# Altium footprint library PcbLib1.PcbLib: 33 footprints (part 1 of 3)
Each footprint in its own frame and in the unit in brackets; x right, y up, seen from the top. Pads: shape width x height; smd on the part's side, far side on the other; paste and mask are expansions set on the pad; w line width, h text height; cw(c..) or ccw(c..) is an arc to the next point about the centre after c.
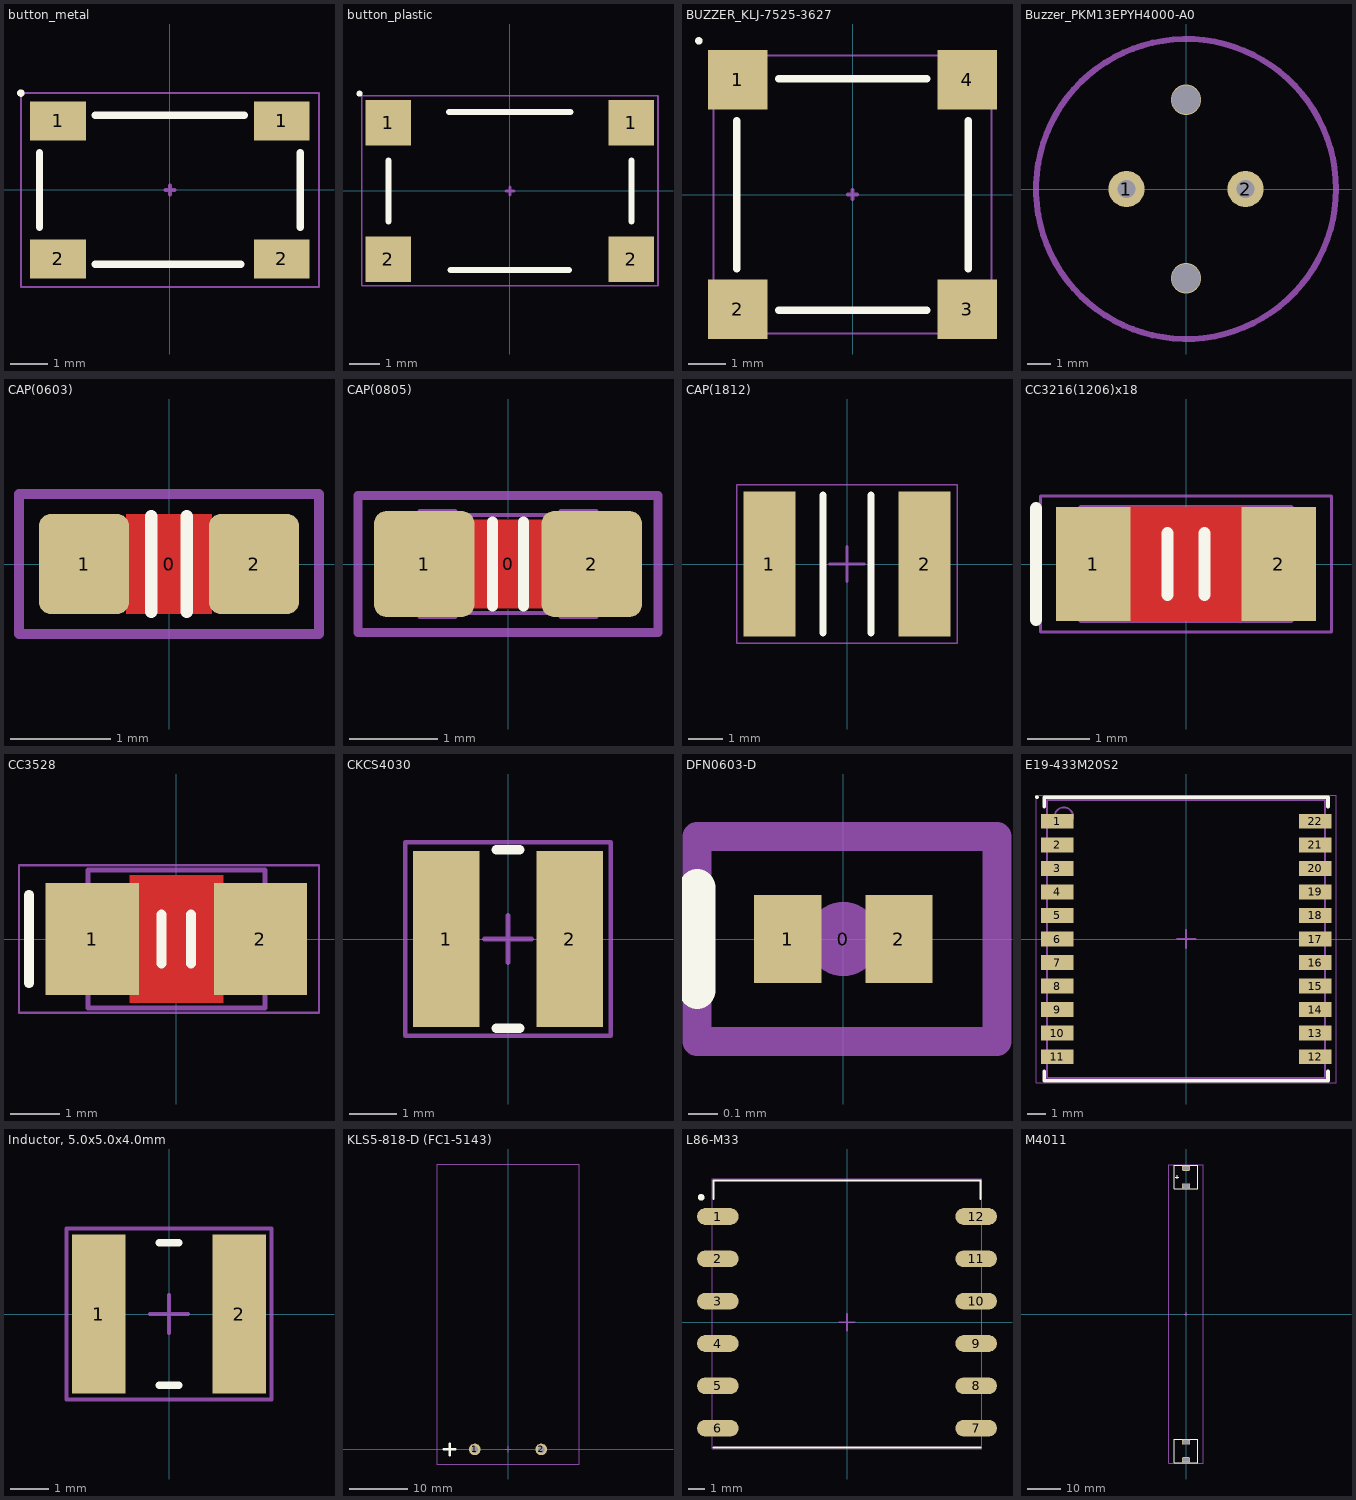
[diagram p0: the footprints below, top view; thin cyan lines are the x and y axes]

## button_metal [mm]
height 1.6
pads (4):
  rect 1.5x1.05 smd: 1(-3,1.85) 1(3,1.85) 2(-3,-1.85) 2(3,-1.85)
Top Overlay:
  circle w0.1: c-4,2.6 r0.05
  lines w0.2: -3.5,-1 -3.5,1 ; -2,-2 1.9,-2 ; -2,2 2,2 ; 3.5,-1 3.5,1
Mechanical 15:
  lines w0.05: -4,-2.6 -4,2.6 4,2.6 4,-2.6 -4,-2.6
  lines w0.1: -0.127,0 0.127,0 ; 0,-0.127 0,0.127

## button_plastic [mm]
height 3.5
pads (4):
  rect 1.5x1.5 smd: 1(-4,2.25) 1(4,2.25) 2(-4,-2.25) 2(4,-2.25)
Top Overlay:
  circle w0.1: c-4.95,3.2 r0.05
  lines w0.2: -4,-1 -4,1 ; -2,2.6 2,2.6 ; -1.95,-2.6 1.95,-2.6 ; 4,-1 4,1
Mechanical 15:
  lines w0.05: -4.875,-3.125 -4.875,3.125 4.875,3.125 4.875,-3.125 -4.875,-3.125
  lines w0.1: -0.127,0 0.127,0 ; 0,-0.127 0,0.127

## BUZZER_KLJ-7525-3627 [mm] "SMD 7.5*7.5*2.5mm"
height 2.5
pads (4):
  rect 1.6x1.6 smd: 1(-3.1,3.1) 2(-3.1,-3.1) 3(3.1,-3.1) 4(3.1,3.1)
Top Overlay:
  circle w0.1: c-4.15,4.15 r0.05
  lines w0.2: -3.125,-2 -3.125,2 ; -2,-3.125 2,-3.125 ; -2,3.125 2,3.125 ; 3.125,-2 3.125,2
Mechanical 15:
  lines w0.05: -3.75,-3.75 3.75,-3.75 3.75,3.75 -3.75,3.75 -3.75,-3.75
  lines w0.1: -0.127,0 0.127,0 ; 0,-0.127 0,0.127
3D body: height 2.5, standoff 0, extent -3.75,-3.75 3.75,3.75

## Buzzer_PKM13EPYH4000-A0 [mil]
height 271.65
pads (2):
  round 60 hole 30: 1(-98.43,0) 2(98.43,0)
via 0,147.64 diameter 50 hole 47.24
via 0,-147.64 diameter 50 hole 47.24
Mechanical 15:
  circle w10: c0,0 r248.03
3D body: height 271.65, standoff 0, extent -248.03,-247.9 248.04,247.91

## CAP(0603) [mm]
height 0.5
pads (3):
  round 0.254 on Mech15: 0(0,0)
  rrect25% 0.9x1 smd: 1(-0.85,0) 2(0.85,0)
Top Layer:
  pour cut-out: -0.425,0.5 0.425,0.5 0.425,-0.5 -0.425,-0.5
Top Overlay:
  lines w0.127: -0.178,-0.476 -0.178,0.476 ; 0.178,-0.476 0.178,0.476
Mechanical 13:
  lines w0.05: -0.55,-0.43 0.55,-0.43 ; -0.55,0.43 0.55,0.43 ; -0.85,-0.45 -0.85,0.45 -0.55,0.45 -0.55,-0.45 -0.85,-0.45 ; 0.55,-0.45 0.55,0.45 0.85,0.45 0.85,-0.45 0.55,-0.45
Mechanical 15:
  lines w0.1: -1.5,-0.7 -1.5,0.7 1.5,0.7 1.5,-0.7 -1.5,-0.7
3D body: height 0.5, standoff 0, extent 0.6,-0.45 0.9,0.45
3D body: height 0.5, standoff 0, extent -0.9,-0.45 -0.6,0.45
3D body: height 0.5, standoff 0, extent -0.6,-0.45 0.6,0.45

## CAP(0805) [mm]
height 0.5
pads (3):
  round 0.254 on Mech15: 0(0,0)
  rrect25% 1.14x1.2 smd: 1(-0.95,0) 2(0.95,0)
Top Layer:
  pour cut-out: -0.425,0.5 0.425,0.5 0.425,-0.5 -0.425,-0.5
Top Overlay:
  lines w0.127: -0.175,-0.475 -0.175,0.477 ; 0.175,-0.475 0.175,0.477
Mechanical 13:
  lines w0.05: -0.575,-0.555 0.575,-0.555 ; -0.575,0.555 0.575,0.555 ; -1,-0.6 -1,0.6 -0.6,0.6 -0.6,-0.6 -1,-0.6 ; 0.6,-0.6 0.6,0.6 1,0.6 1,-0.6 0.6,-0.6
Mechanical 15:
  lines w0.1: -1.7,-0.775 -1.7,0.775 1.7,0.775 1.7,-0.775 -1.7,-0.775
3D body: height 0.5, standoff 0, extent 0.6,-0.6 1,0.6
3D body: height 0.5, standoff 0, extent -1,-0.6 -0.6,0.6
3D body: height 0.5, standoff 0, extent -0.6,-0.6 0.6,0.6

## CAP(1812) [mm]
height 3.2
pads (2):
  rect 1.5x4.2 smd: 1(-2.25,0) 2(2.25,0)
Top Overlay:
  lines w0.2: -0.7,-2 -0.7,2 ; 0.7,-2 0.7,2
Mechanical 15:
  lines w0.05: -3.2,-2.3 3.2,-2.3 3.2,2.3 -3.2,2.3 -3.2,-2.3
  lines w0.1: -0.5,0 0.5,0 ; 0,-0.5 0,0.5
3D body: height 3.2, standoff 0, extent -2.25,-1.4 -1.7,1.4
3D body: height 3.2, standoff 0, extent -1.7,-1.4 1.7,1.4
3D body: height 3.2, standoff 0, extent 1.7,-1.4 2.25,1.4

## CC3216(1206)x18 [mm]
pads (2):
  rect 1.2x1.85 smd: 1(-1.5,0) 2(1.5,0)
Top Layer:
  pour cut-out: -0.95,0.925 0.95,0.925 0.95,-0.925 -0.95,-0.925
Top Overlay:
  lines w0.2: -2.425,-0.9 -2.425,0.9 ; -0.3,-0.5 -0.3,0.5 ; 0.3,-0.5 0.3,0.5
Mechanical 13:
  lines w0.1: -1.7,-0.9 1.7,-0.9 1.7,0.9 -1.7,0.9 -1.7,-0.9
Mechanical 15:
  lines w0.05: -2.35,-1.1 2.35,-1.1 2.35,1.1 -2.35,1.1 -2.35,-1.1
  lines w0.1: -0.5,0 0.5,0 ; 0,-0.5 0,0.5
3D body: height 1.6, standoff 0, extent -1.7,-0.9 -1.2,0.9
3D body: height 1.6, standoff 0, extent -1.2,-0.9 1.7,0.9

## CC3528 [mm]
height 1.9
pads (2):
  rect 1.9x2.28 smd: 1(-1.71,0) 2(1.71,0)
Top Layer:
  pour cut-out: -0.95,1.3 0.95,1.3 0.95,-1.3 -0.95,-1.3
Top Overlay:
  lines w0.2: -3,-0.9 -3,0.9 ; -0.3,-0.5 -0.3,0.5 ; 0.3,-0.5 0.3,0.5
Mechanical 13:
  lines w0.1: -1.8,-1.4 1.8,-1.4 1.8,1.4 -1.8,1.4 -1.8,-1.4
Mechanical 15:
  lines w0.05: -3.2,-1.5 2.9,-1.5 2.9,1.5 -3.2,1.5 -3.2,-1.5
  lines w0.1: -0.5,0 0.5,0 ; 0,-0.5 0,0.5
3D body: height 1.6, standoff 0, extent -1.75,-1.4 -1.2,1.4
3D body: height 1.6, standoff 0, extent -1.2,-1.4 1.75,1.4

## CKCS4030 [mm] "Chip Inductor, Body 4.0x4.0x3.0mm"
height 3
pads (2):
  rect 1.4x3.7 smd: 1(-1.3,0) 2(1.3,0)
Top Overlay:
  lines w0.2: -0.25,-1.875 0.25,-1.875 ; -0.25,1.875 0.25,1.875
Mechanical 15:
  lines w0.1: -0.5,0 0.5,0 ; 0,-0.5 0,0.5 ; -2.159,-2.032 -2.159,2.032 2.159,2.032 2.159,-2.032 -2.159,-2.032
3D body: height 3, standoff 0, extent -1.905,-1.778 1.905,1.778

## DFN0603-D [mm]
height 0.3
pads (3):
  round 0.254 on Mech15: 0(0,0)
  rect 0.23x0.3 smd: 1(-0.19,0) 2(0.19,0)
Top Overlay:
  lines w0.127: -0.5,-0.175 -0.5,0.175
Mechanical 15:
  lines w0.1: -0.5,-0.35 0.525,-0.35 0.525,0.35 -0.5,0.35 -0.5,-0.35
3D body: height 0.3, standoff 0, extent -0.375,-0.2 0.375,0.2

## E19-433M20S2 [mm] "22-Leads, Body 15,00x15,00mm, Pitch 1,27mm"
height 2.65
pads (22):
  rect 1.75x0.8 smd: 1(-6.965,6.35) 2(-6.965,5.08) 3(-6.965,3.81) 4(-6.965,2.54) 5(-6.965,1.27) 6(-6.965,0) 7(-6.965,-1.27) 8(-6.965,-2.54) 9(-6.965,-3.81) 10(-6.965,-5.08) 11(-6.965,-6.35) 12(6.965,-6.35) 13(6.965,-5.08) 14(6.965,-3.81) 15(6.965,-2.54) 16(6.965,-1.27) 17(6.965,0) 18(6.965,1.27) 19(6.965,2.54) 20(6.965,3.81) 21(6.965,5.08) 22(6.965,6.35)
Top Overlay:
  circle w0.1: c-8.05,7.65 r0.05
  lines w0.2: -7.65,-7.15 -7.65,-7.65 7.65,-7.65 7.65,-7.15 ; -7.65,7.15 -7.65,7.65 7.65,7.65 7.65,7.15
Mechanical 13:
  circle w0.1: c-6.6,6.6 r0.5
  lines w0.1: -7.5,-7.5 7.5,-7.5 7.5,7.5 -7.5,7.5 -7.5,-7.5
Mechanical 15:
  lines w0.05: -8.085,-7.75 8.085,-7.75 8.085,7.75 -8.085,7.75 -8.085,-7.75
  lines w0.1: -0.5,0 0.5,0 ; 0,-0.5 0,0.5
3D body: height 2.65, standoff 0.1, extent -7.5,-7.5 7.5,7.5

## Inductor, 5.0x5.0x4.0mm [mm] "Chip Inductor, Body 5.0x5.0x4.0mm"
height 4
pads (2):
  rect 1.4x4.2 smd: 1(-1.85,0) 2(1.85,0)
Top Overlay:
  lines w0.2: -0.25,-1.875 0.25,-1.875 ; -0.25,1.875 0.25,1.875
Mechanical 15:
  lines w0.1: -0.5,0 0.5,0 ; 0,-0.5 0,0.5 ; -2.7,-2.25 2.7,-2.25 2.7,2.25 -2.7,2.25 -2.7,-2.25
3D body: height 3, standoff 0, extent -1.905,-1.778 1.905,1.778

## KLS5-818-D (FC1-5143) [mm] "2趵览 case from board (size 50x23.3x12)"
height 12
pads (2):
  round 2 hole 1.17: 1(-5.69,0) 2(5.69,0)
Top Overlay:
  lines w0.4: -11,0 -9,0 ; -10,-1 -10,1
Mechanical 15:
  lines w0.05: -12.2,-2.5 12.2,-2.5 12.2,48.9 -12.2,48.9 -12.2,-2.5
  lines w0.1: -0.5,0 0.5,0 ; 0,-0.5 0,0.5
3D body: height 13, standoff 0, extent -12.2,-2.5 12.2,48.9

## L86-M33 [mm]
height 6.45
pads (12):
  oval 2.5x1 smd: 1(-7.75,6.35) 2(-7.75,3.81) 3(-7.75,1.27) 4(-7.75,-1.27) 5(-7.75,-3.81) 6(-7.75,-6.35) 7(7.75,-6.35) 8(7.75,-3.81) 9(7.75,-1.27) 10(7.75,1.27) 11(7.75,3.81) 12(7.75,6.35)
Top Overlay:
  circle w0.2: c-8.75,7.5 r0.1
  lines w0.127: -8,-7.5 8,-7.5 ; -8,7.4 -8,8.5 8,8.5 8,7.4
Mechanical 15:
  lines w0.05: -8.085,-7.575 -8.085,8.6 8.085,8.6 8.085,-7.575 -8.085,-7.575
  lines w0.1: -0.5,0 0.5,0 ; 0,-0.5 0,0.5
3D body: height 6.45, standoff 0.1, extent -8,-7.5 8,8.475

## M4011 [mm]
height 14
pads (4):
  rrect50% 2.5x1.5 hole 1 slot 2 at 0 deg: 1(0,37.9) 1(0,43.1) 2(0,-43.1) 2(0,-37.9)
Top Overlay:
  lines w0.2: -3.125,40.5 -2.125,40.5 ; -2.625,40 -2.625,41 ; -3.475,-43.975 -3.475,-37.025 3.475,-37.025 3.475,-43.975 -3.475,-43.975 ; -3.475,37.025 -3.475,43.975 3.475,43.975 3.475,37.025 -3.475,37.025
Mechanical 15:
  lines w0.1: -0.5,0 0.5,0 ; 0,-0.5 0,0.5 ; 5.1,44.1 -5.1,44.1 -5.1,-44.1 5.1,-44.1 5.1,44.1
3D body: height 9.99, standoff 0.01, extent -5,-36.75 5,36.75
3D body: height 5.2, standoff 4.8, extent -0.198,-36.75 0.2,36.75
3D body: height 8.1, standoff 1.9, extent -3.1,36.75 3.1,43.25
3D body: height 8.1, standoff 1.9, extent -3.1,-43.25 3.1,-36.75